# EAGLE library part MCP2515_MODULE (library MCP2515_Module)
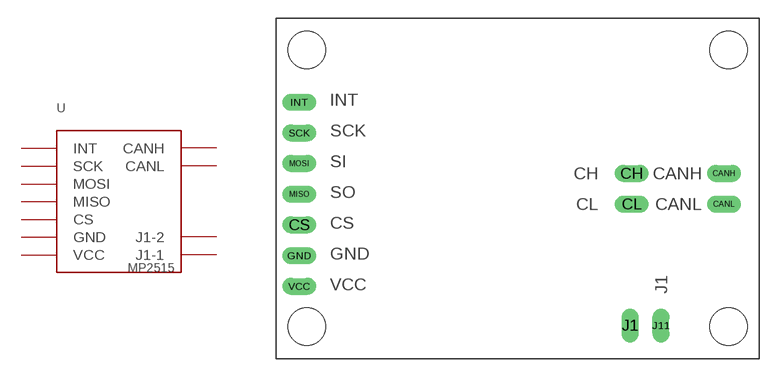
[diagram p0: symbol with the pads of MCP2515_MODULE; footprint MCP2515_MODULE]

Designator prefix -

## MCP2515_MODULE  [MCP2515_MODULE]
CANH  CANH
CANL  CANL
CH  CANH
CL  CANL
CS  CS
GND  GND
INT  INT
J1  J1-1
J11  J1-2
MISO  MISO
MOSI  MOSI
SCK  SCK
VCC  VCC

## Footprint MCP2515_MODULE (pad centres in mm)
drill 0.9 pad 1.3 long: CANH 35.14,9.34; CANL 35.14,6.8; CH 27.52,9.34; CL 27.52,6.8; CS 0,5.08; GND 0,2.54; INT 0,15.24; J1 27.4,-3.24; J11 29.94,-3.24; MISO 0,7.62; MOSI 0,10.16; SCK 0,12.7; VCC 0,0
hole 3.1 at 0.63,-3.35
hole 3.1 at 0.63,19.55
hole 3.1 at 35.53,19.55
hole 3.1 at 35.53,-3.35